# Altium integrated library PCB_Project.IntLib: 11 symbols
Pins are listed as number, name and electrical type; pins without a type are passive.

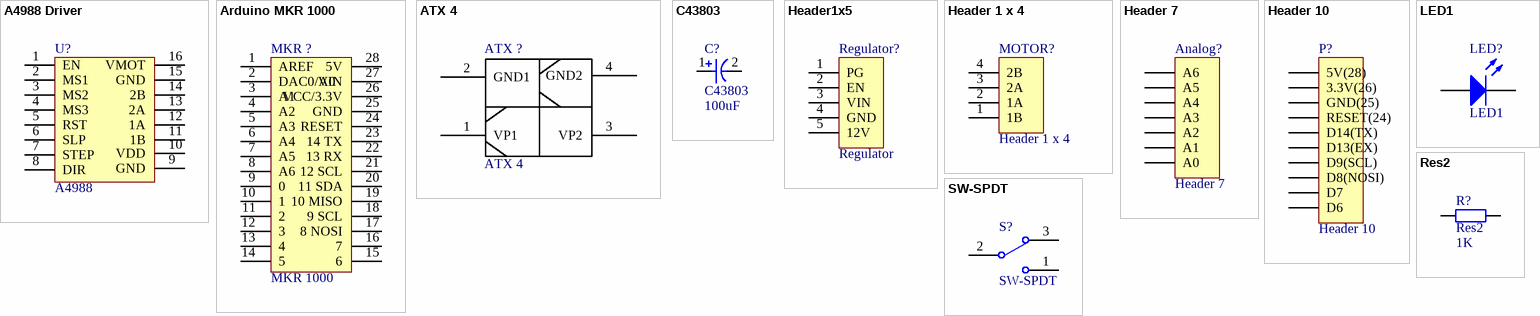
[diagram p0: symbols A4988 Driver to SW-SPDT]

## A4988 Driver
designator U?, comment A4988
Motor Driver
footprint A4988 Driver
pins: 1 EN, 2 MS1, 3 MS2, 4 MS3, 5 RST, 6 SLP, 7 STEP, 8 DIR, 9 GND, 10 VDD, 11 1B, 12 1A, 13 2A, 14 2B, 15 GND, 16 VMOT

## Arduino MKR 1000
designator MKR ?, comment MKR 1000
Arduino wifi
footprint MKR1000
pins: 1 AREF, 2 DAC0/A0, 3 A1, 4 A2, 5 A3, 6 A4, 7 A5, 8 A6, 9 0, 10 1, 11 2, 12 3, 13 4, 14 5, 15 6, 16 7, 17 8 NOSI, 18 9 SCL, 19 10 MISO, 20 11 SDA, 21 12 SCL, 22 13 RX, 23 14 TX, 24 RESET, 25 GND, 26 VCC/3.3V, 27 VIN, 28 5V

## ATX 4
designator ATX ?
ATX 4Pins power connector
footprint ATX4
pins: 1 VP1, 2 GND1, 3 VP2, 4 GND2

## C43803
designator C?  value 100uF
Polarized Capacitor C43803 100uF; Published: 8-Jun-2000; LatestRevisionDate: 29-May-2009; LatestRevisionNote: IPC-7351 Footprint Added.; PackageReference: C0805; Publisher: Altium Limited; PackageDescription: Chip Capacitor
footprint C0805 (Chip Capacitor, Body 2.0x1.3mm, IPC High Density)
footprint 1825 (Chip Capacitor, Body 4.5x6.4mm, IPC High Density)
footprint C2225 (Chip Capacitor, Body 5.7x6.4mm, IPC High Density)
footprint 2220 (Chip Capacitor, Body 5.7x5.0mm, IPC High Density)
simulation model CAP (Capacitor)
signal-integrity model Cap Pol
footprint C43803
pins: 1, 2
1 alternate drawing of the same symbol

## Header1x5
designator Regulator?, comment Regulator
Voltage Regulator D24V25F5; LatestRevisionDate: 17-Jul-2002; LatestRevisionNote: Re-released for DXP Platform.; Publisher: Altium Limited
footprint HDR1X5 (Connector; Header; 5 Position)
signal-integrity model Connector
pins: 1 PG, 2 EN, 3 VIN, 4 GND, 5 12V

## Header 1 x 4
designator MOTOR?
Header, 4-Pin; LatestRevisionDate: 17-Jul-2002; LatestRevisionNote: Re-released for DXP Platform.; Publisher: Altium Limited
footprint HDR1X4 (Connector; Header; 4 Position)
signal-integrity model Connector
pins: 1 1B, 2 1A, 3 2A, 4 2B

## Header 7
designator Analog?
Header, 7-Pin; LatestRevisionDate: 17-Jul-2002; LatestRevisionNote: Re-released for DXP Platform.; Publisher: Altium Limited
footprint HDR1X7 (Connector; Header; 7 Position)
signal-integrity model Connector
pins: 1 A6, 2 A5, 3 A4, 4 A3, 5 A2, 6 A1, 7 A0

## Header 10
designator P?
Header, 10-Pin; LatestRevisionDate: 17-Jul-2002; LatestRevisionNote: Re-released for DXP Platform.; Publisher: Altium Limited
footprint HDR1X10 (Connector; Header; 10 Position)
signal-integrity model Connector
pins: 1 5V(28), 2 3.3V(26), 3 GND(25), 4 RESET(24), 5 D14(TX), 6 D13(EX), 7 D9(SCL), 8 D8(NOSI), 9 D7, 10 D6

## LED1
designator LED?
Typical RED GaAs LED; Published: 8-Jun-2000; LatestRevisionDate: 08-Jul-2005; LatestRevisionNote: Mech Layer 1 removed.; PackageReference: LED-1; Publisher: Altium Limited; PackageDescription: LED; 2 Leads
footprint LED-1 (LED; 2 Leads)
simulation model LED1 (Diode)
footprint LED
pins: 1 A, 2 K

## Res2
designator R?  value 1K
Resistor; Published: 8-Jun-2000; LatestRevisionDate: 17-Jul-2002; LatestRevisionNote: Re-released for DXP Platform.; PackageReference: AXIAL-0.4; Publisher: Altium Limited; PackageDescription: Axial Device, Thru-Hole; 2 Leads; 0.4 in Pin Spacing
footprint AXIAL-0.4 (Axial Device, Thru-Hole; 2 Leads; 0.4 in Pin Spacing)
simulation model RESISTOR (Resistor)
signal-integrity model Res
pins: 1, 2

## SW-SPDT
designator S?
SPDT Subminiature Toggle Switch, Right Angle Mounting, Vertical Actuation; Published: 24-Mar-1999; LatestRevisionDate: 17-Dec-2003; LatestRevisionNote: Schematic revised, PCB Footprint replaced.; DatasheetVersion: 05-Dec-2000; PackageReference: TL36WW15050; Publisher: Altium Limited; PackageDescription: Switch; 4 Leads; ComponentLink1Description: Manufacturer Link; ComponentLink1URL: http://www.apem.com
footprint SPDT
pins: 1, 2, 3